# EAGLE library part 615008149521R (library USB_c_conn)
WR-MJ_Modular Jack_Tab UP_8P8C_MiddleAssembly 8P8C Tab UP_Middle Assembly Housing Code : Con_WR-MJ_Horizontal_Plastic_6150xx149521 <http://katalog.we-online.de/media/images/eican/Con_WR-MJ_Horizontal_Plastic_6150xx149521_pf2.jpg> Details see: http://katalog.we-online.de/en/em/MJ_HORIZONTAL_PLASTIC_ASSEMBLY_8P8C_TAB_UP Created 2014-12-22, aslant tao 2014 (C) Würth Elektronik
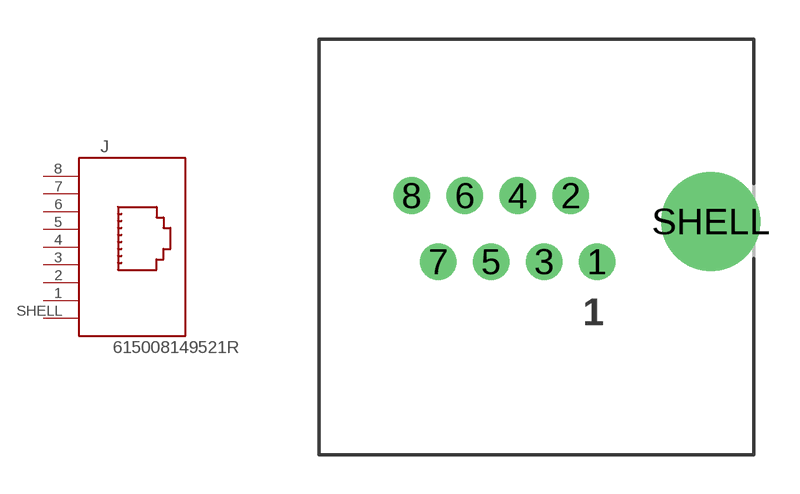
[diagram p160: symbol with the pads of 615008149521R; footprint 615008149521R]

Designator prefix J

## 615008149521R  [615008149521R]
1  1  pas
2  2  pas
3  3  pas
4  4  pas
5  5  pas
6  6  pas
7  7  pas
8  8  pas
SHELL  SHIELD  pas

## Footprint 615008149521R (pad centres in mm)
WR-MJ_Modular Jack_Tab UP_8P8C_MiddleAssembly 8P8C Tab UP_Middle Assembly Housing
drill 0.9: 1 -4.38,-1.54; 2 -5.4,1; 3 -6.42,-1.54; 4 -7.44,1; 5 -8.46,-1.54; 6 -9.48,1; 7 -10.5,-1.54; 8 -11.52,1
drill 2.8: SHELL 0,0